# EAGLE library part TXU0202DCUR (library TXU0202DCUR)
Translation - Voltage Levels Two channel fixed-direction level shifter with channels in opposite direction Source: Datasheet <https://www.ti.com/product/ja-jp/TXU0202>
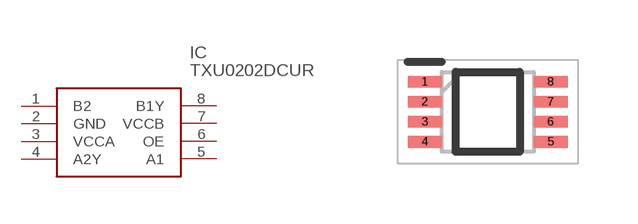
[diagram p0: symbol with the pads of SOP50P310X90-8N; footprint SOP50P310X90-8N]

Designator prefix IC

## TXU0202DCUR (Description: Translation - Voltage Levels Two channel fixed-direction level shifter with channels in opposite direction; Height: 0.9mm; Manufacturer_Name: Texas Instruments; Manufacturer_Part_Number: TXU0202DCUR; Mouser_Part_Number: 595-TXU0202DCUR; Mouser_Price-Stock: https://www.mouser.co.uk/ProductDetail/Texas-Instruments/TXU0202DCUR?qs=t7xnP681wgVssPLUozppFA%3D%3D)  [SOP50P310X90-8N]
1  B2  in
2  GND  pwr
3  VCCA  pwr
4  A2Y  out
5  A1  in
6  OE  in
7  VCCB  pwr
8  B1Y  out

## Footprint SOP50P310X90-8N (pad centres in mm)
DCU (R-PDSO-G8)
smd 0.85 x 0.3: 1 -1.575,0.75; 2 -1.575,0.25; 3 -1.575,-0.25; 4 -1.575,-0.75; 5 1.575,-0.75; 6 1.575,-0.25; 7 1.575,0.25; 8 1.575,0.75